# EAGLE library part VAWQ6 (library ekho)
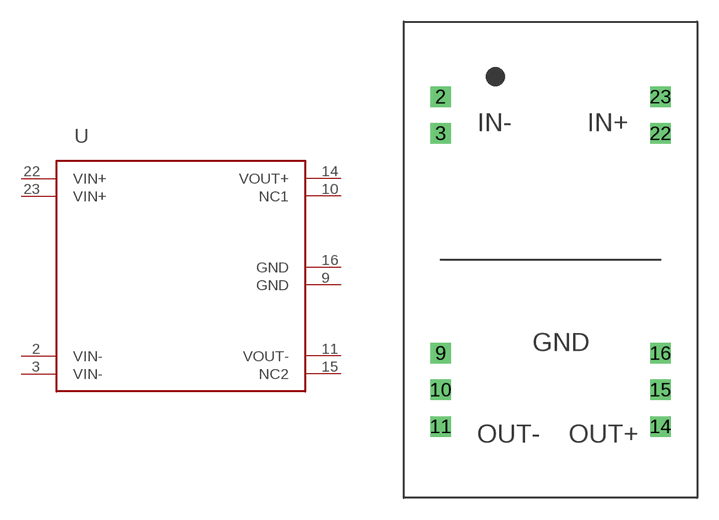
[diagram p0: symbol with the pads of VAWQ6; footprint VAWQ6]

Designator prefix -

## VAWQ6  [VAWQ6]
2  VIN-  pwr
3  VIN-  pwr
9  GND  pwr
10  NC1  nc
11  VOUT-  pwr
14  VOUT+  pas
15  NC2  nc
16  GND  pwr
22  VIN+  pwr
23  VIN+  pwr

## Footprint VAWQ6 (pad centres in mm)
drill 0.9 pad 1.422 square: 2 -7.62,11.303; 3 -7.62,8.763; 9 -7.62,-6.477; 10 -7.62,-9.017; 11 -7.62,-11.557; 14 7.62,-11.557; 15 7.62,-9.017; 16 7.62,-6.477; 22 7.62,8.763; 23 7.62,11.303